# EAGLE library part LT3581EMSEPBF (library LT3581)
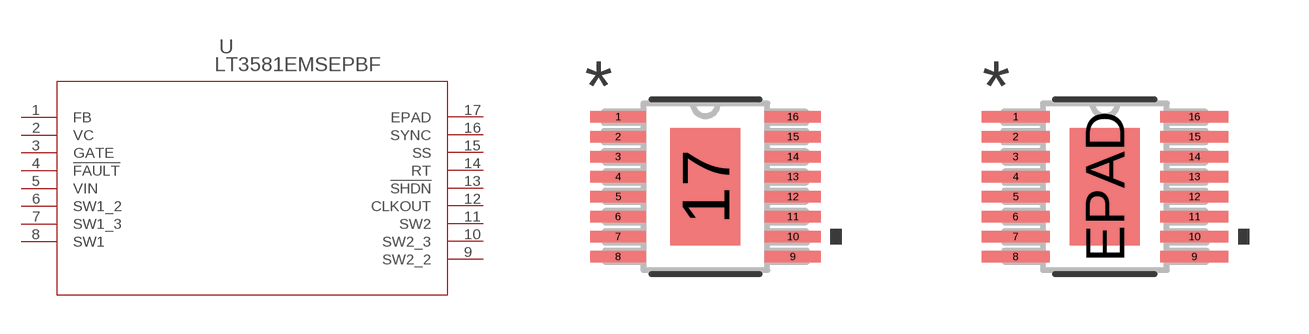
[diagram p0: symbol with the pads of MSOP-16_MSE; footprints MSOP-16_MSE, MSOP-16_MSE-M]

Designator prefix U

## LT3581EMSEPBF (MANUFACTURER_PART_NUMBER: lt3581emse#pbf; VENDOR: Linear Technology)  [MSOP-16_MSE]
1  FB  pas
2  VC  out
3  GATE  out
4  !FAULT
5  VIN  in
6  SW1_2  pas
7  SW1_3  pas
8  SW1  pas
9  SW2_2  pas
10  SW2_3  pas
11  SW2  pas
12  CLKOUT  out
13  !SHDN  pas
14  RT  pas
15  SS  pas
16  SYNC  pas
17  EPAD  pas

## LT3581EMSEPBFMSOP-16_MSE-M (MANUFACTURER_PART_NUMBER: lt3581emse#pbf; VENDOR: Linear Technology)  [MSOP-16_MSE-M]
1  FB  pas
2  VC  out
3  GATE  out
4  !FAULT
5  VIN  in
6  SW1_2  pas
7  SW1_3  pas
8  SW1  pas
9  SW2_2  pas
10  SW2_3  pas
11  SW2  pas
12  CLKOUT  out
13  !SHDN  pas
14  RT  pas
15  SS  pas
16  SYNC  pas

## LT3581EMSEPBFMSOP-16_MSE-L (MANUFACTURER_PART_NUMBER: lt3581emse#pbf; VENDOR: Linear Technology)  [MSOP-16_MSE-L]
Pads as for MSOP-16_MSE-M

## Footprint MSOP-16_MSE (pad centres in mm)
smd 1.397 x 0.279: 1 -2.184,1.751; 2 -2.184,1.251; 3 -2.184,0.751; 4 -2.184,0.25; 5 -2.184,-0.25; 6 -2.184,-0.751; 7 -2.184,-1.251; 8 -2.184,-1.751; 9 2.184,-1.751; 10 2.184,-1.251; 11 2.184,-0.751; 12 2.184,-0.25; 13 2.184,0.25; 14 2.184,0.751; 15 2.184,1.251; 16 2.184,1.751
smd 1.753 x 2.946: 17 0,0

## Footprint MSOP-16_MSE-M (pad centres in mm)
smd 1.702 x 0.279: 1 -2.235,1.751; 2 -2.235,1.251; 3 -2.235,0.751; 4 -2.235,0.25; 5 -2.235,-0.25; 6 -2.235,-0.751; 7 -2.235,-1.251; 8 -2.235,-1.751; 9 2.235,-1.751; 10 2.235,-1.251; 11 2.235,-0.751; 12 2.235,-0.25; 13 2.235,0.25; 14 2.235,0.751; 15 2.235,1.251; 16 2.235,1.751
smd 1.753 x 2.946: EPAD 0,0

## Footprint MSOP-16_MSE-L (pad centres in mm)
smd 1.092 x 0.279: 1 -2.134,1.751; 2 -2.134,1.251; 3 -2.134,0.751; 4 -2.134,0.25; 5 -2.134,-0.25; 6 -2.134,-0.751; 7 -2.134,-1.251; 8 -2.134,-1.751; 9 2.134,-1.751; 10 2.134,-1.251; 11 2.134,-0.751; 12 2.134,-0.25; 13 2.134,0.25; 14 2.134,0.751; 15 2.134,1.251; 16 2.134,1.751
smd 1.753 x 2.946: EPAD 0,0